# Altium schematic symbol library EEUFR1H220.SchLib: 1 symbol
Pins are listed as number, name and electrical type; pins without a type are passive.

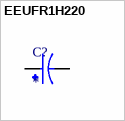
[diagram p0: symbol EEUFR1H220]

## EEUFR1H220
designator C?
Cap Aluminum Lytic 22uF 50V 20% (5 X 11.5mm) Radial 2mm 250mA 5000h 105Â°C Bulk; MP: EEUFR1H220; MF: Panasonic; SnapEDA_Link: https://www.snapeda.com/parts/EEUFR1H220/Panasonic/view-part/5796747/?ref=snap; Availability: In Stock; Value: *; Price: None; Package: RADIAL-2 Panasonic; Check_prices: https://www.snapeda.com/parts/EEUFR1H220/Panasonic/view-part/5796747/?ref=eda
footprint CAPPRD200W50D500H1100
pins: N, P